# Altium schematic symbol library MTH.SchLib: 2 symbols
Pins are listed as number, name and electrical type; pins without a type are passive.

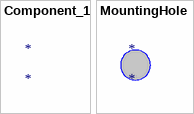
[diagram p0: symbols Component_1 to MountingHole]

## Component_1
designator *

## MountingHole
designator *
footprint MTH